# Altium schematic symbol library BSPD_Conn_Sch.SchLib: 1 symbol
Pins are listed as number, name and electrical type; pins without a type are passive.

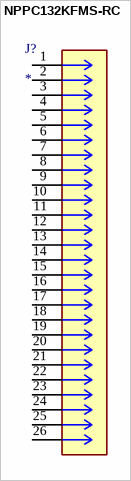
[diagram p0: symbol NPPC132KFMS-RC]

## NPPC132KFMS-RC
designator J?
26 Position Header Connector 0.100 (2.54mm) Surface Mount Gold; MF: Sullins Connector; MP: NPPC132KFMS-RC; SnapEDA_Link: https://www.snapeda.com/parts/NPPC132KFMS-RC/Sullins/view-part/?ref=snap; Package: None; Value: *; Check_prices: https://www.snapeda.com/parts/NPPC132KFMS-RC/Sullins/view-part/?ref=eda
footprint CONN26_KFMS-RC_SUL
pins: 1, 2, 3, 4, 5, 6, 7, 8, 9, 10, 11, 12, 13, 14, 15, 16, 17, 18, 19, 20, 21, 22, 23, 24, 25, 26